# Altium footprint library dev.PcbLib: 112 footprints (part 3 of 7)
Each footprint in its own frame and in the unit in brackets; x right, y up, seen from the top. Pads: shape width x height; smd on the part's side, far side on the other; paste and mask are expansions set on the pad; w line width, h text height; cw(c..) or ccw(c..) is an arc to the next point about the centre after c.
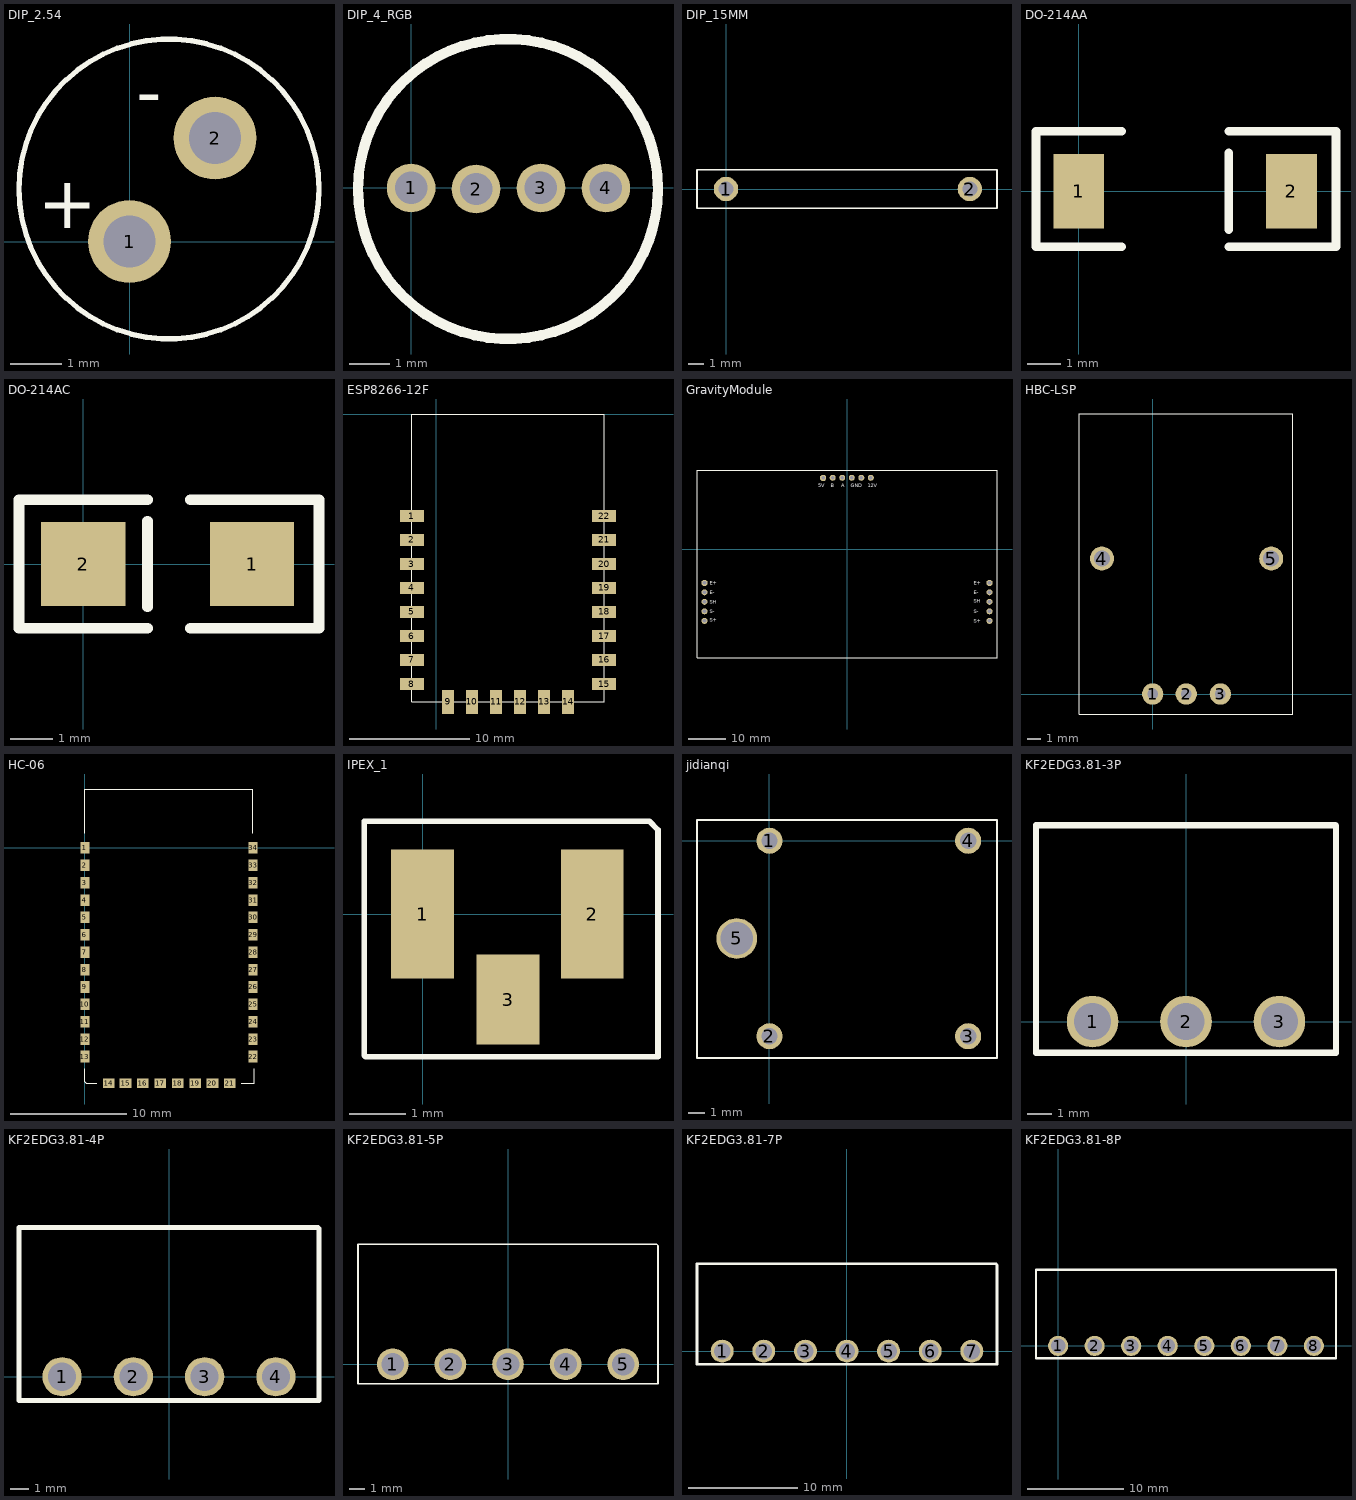
[diagram p2: the footprints below, top view; thin cyan lines are the x and y axes]

## DIP_2.54 [mm]
pads (2):
  round 1.6 hole 1: 1(0,0) 2(1.651,2)
Top Overlay:
  circle w0.1: c0.762,1.016 r2.899
  text "+" at -1.778,0.254 h1
  text "-" at 0.127,2.413 h1

## DIP_4_RGB [mm]
pads (4):
  round 1.2 hole 0.8: 1(0,0) 2(1.6,-0.025) 3(3.2,0) 4(4.8,0)
Top Overlay:
  circle w0.254: c2.388,-0.025 r3.696

## DIP_15MM [mm]
pads (2):
  round 1.6 hole 1: 1(0,0) 2(16,0)
Top Overlay:
  lines w0.1: -1.905,-1.27 17.78,-1.27 17.78,1.27 -1.905,1.27 -1.905,-1.27

## DO-214AA [mm]
pads (2):
  rect 1.5x2.2 smd: 1(0,0) 2(6.3,0)
Top Overlay:
  lines w0.254: 1.27,-1.651 -1.27,-1.651 -1.27,1.778 1.27,1.778 ; 4.445,-1.651 7.62,-1.651 7.62,1.778 4.445,1.778 ; 4.445,-1.143 4.445,1.143

## DO-214AC [mm]
pads (2):
  rect 2x2 smd: 1(4,0) 2(0,0)
Top Overlay:
  lines w0.254: 1.524,-1.524 1.27,-1.524 -1.524,-1.524 -1.524,-1.27 -1.524,1.524 1.27,1.524 1.524,1.524 ; 1.524,-1.016 1.524,1.016 ; 2.54,-1.524 5.588,-1.524 5.588,1.524 5.334,1.524 2.54,1.524

## ESP8266-12F [mm]
pads (22):
  rect 2x1 smd: 1(-2,-8.5) 2(-2,-10.5) 3(-2,-12.5) 4(-2,-14.5) 5(-2,-16.5) 6(-2,-18.5) 7(-2,-20.5) 8(-2,-22.5) 15(14,-22.5) 16(14,-20.5) 17(14,-18.5) 18(14,-16.5) 19(14,-14.5) 20(14,-12.5) 21(14,-10.5) 22(14,-8.5)
  rect 1x2 smd: 9(1,-24) 10(3,-24) 11(5,-24) 12(7,-24) 13(9,-24) 14(11,-24)
Top Overlay:
  lines w0.1: -2,-24 -2,0 14,0 14,-24 -2,-24

## GravityModule [mm]
pads (16):
  oct 1.6x1.6 hole 1: 1(38,-8.92) 6(-38,-8.92) 11(-6.35,19.08)
  round 1.6 hole 1: 2(38,-11.46) 3(38,-14) 4(38,-16.54) 5(38,-19.08) 7(-38,-11.46) 8(-38,-14) 9(-38,-16.54) 10(-38,-19.08) 12(-3.81,19.08) 13(-1.27,19.08) 14(1.27,19.08) 15(3.81,19.08) 16(6.35,19.08)
Top Overlay:
  lines w0.1: 40,21.08 -40,21.08 -40,-28.92 40,-28.92 40,21.082
  text "S+" at 33.782,-19.558 h1
  text "S-" at 33.782,-17.018 h1
  text "SH" at 33.782,-14.224 h1
  text "E-" at 33.782,-11.938 h1
  text "E+" at 33.782,-9.398 h1
  text "S+" at -36.576,-19.304 h1
  text "S-" at -36.576,-17.018 h1
  text "SH" at -36.576,-14.478 h1
  text "E-" at -36.576,-11.938 h1
  text "E+" at -36.576,-9.398 h1
  text "12V" at 5.588,16.51 h1
  text "GND" at 1.016,16.51 h1
  text "A" at -1.524,16.51 h1
  text "B" at -4.318,16.51 h1
  text "5V" at -7.62,16.51 h1

## HBC-LSP [mm]
pads (5):
  round 1.6 hole 0.8: 1(0,0) 2(2.52,0) 3(5.08,0)
  round 1.8 hole 1.2: 4(-3.81,10.16) 5(8.89,10.16)
Top Overlay:
  lines w0.05: -5.5,-1.5 -5.5,21 10.5,21 10.5,-1.5 -5.5,-1.5

## HC-06 [mm]
pads (34):
  rect 0.8x1 smd: 1(0,0) 2(0,-1.5) 3(0,-3) 4(0,-4.5) 5(0,-6) 6(0,-7.5) 7(0,-9) 8(0,-10.5) 9(0,-12) 10(0,-13.5) 11(0,-15) 12(0,-16.5) 13(0,-18) 22(14.5,-18) 23(14.5,-16.5) 24(14.5,-15) 25(14.5,-13.5) 26(14.5,-12) 27(14.5,-10.5) 28(14.5,-9) 29(14.5,-7.5) 30(14.5,-6) 31(14.5,-4.5) 32(14.5,-3) 33(14.5,-1.5) 34(14.5,0)
  rect 1x0.8 smd: 14(2.05,-20.3) 15(3.5,-20.3) 16(5,-20.3) 17(6.5,-20.3) 18(8,-20.3) 19(9.5,-20.3) 20(11,-20.3) 21(12.5,-20.3)
Top Overlay:
  lines w0.1: 0,-19.05 0,-20.193 0.127,-20.32 1.016,-20.32 ; 0,1.27 0,5.08 14.478,5.08 14.478,1.27 ; 13.462,-20.32 14.605,-20.32 14.605,-19.05

## IPEX_1 [mm]
pads (3):
  rect 1.12x2.3 smd: 1(0,0) 2(3.02,0)
  rect 1.12x1.6 smd: 3(1.524,-1.524)
Top Overlay:
  lines w0.1: -1.041,-2.515 -1.041,1.651 4.039,1.651 4.191,1.499 4.191,-2.54 -1.016,-2.54 -1.041,-2.515

## jidianqi [mm]
pads (5):
  round 1.6 hole 1: 1(0,0) 2(0,-12) 3(12.2,-12) 4(12.2,0)
  round 2.5 hole 2: 5(-2,-6)
Top Overlay:
  lines w0.1: -4.445,-13.335 13.97,-13.335 13.97,1.27 -4.445,1.27 -4.445,-13.335

## KF2EDG3.81-3P [mm]
pads (3):
  round 2.1 hole 1.5: 1(-3.81,0) 2(0,0) 3(3.81,0)
Top Overlay:
  lines w0.254: -6.115,-1.27 -6.115,8 6.096,8 6.115,7.981 6.115,-1.27 -6.115,-1.27

## KF2EDG3.81-4P [mm]
pads (4):
  round 2.1 hole 1.5: 1(-5.715,0) 2(-1.905,0) 3(1.905,0) 4(5.715,0)
Top Overlay:
  lines w0.254: 7.98,7.98 -8.02,7.98 -8.02,-1.27 8.02,-1.27 8.02,7.94

## KF2EDG3.81-5P [mm]
pads (5):
  round 2.1 hole 1.5: 1(-7.62,0) 2(-3.81,0) 3(0,0) 4(3.81,0) 5(7.62,0)
Top Overlay:
  lines w0.1: -9.925,-1.27 -9.925,7.93 9.85,7.93 9.925,7.855 9.925,-1.27 -9.925,-1.27

## KF2EDG3.81-7P [mm]
pads (7):
  round 2.1 hole 1.5: 1(-11.43,0) 2(-7.62,0) 3(-3.81,0) 4(0,0) 5(3.81,0) 6(7.62,0) 7(11.43,0)
Top Overlay:
  lines w0.254: -13.735,-1.2 -13.735,8 13.626,8 13.735,7.891 13.735,-1.2 -13.735,-1.2

## KF2EDG3.81-8P [mm]
pads (8):
  round 2.1 hole 1.5: 1(0,0) 2(3.81,0) 3(7.62,0) 4(11.43,0) 5(15.24,0) 6(19.05,0) 7(22.86,0) 8(26.67,0)
Top Overlay:
  lines w0.254: 28.956,7.93 -2.305,7.93 -2.305,-1.27 28.975,-1.27 28.975,7.93